# Altium footprint library hsbest.PcbLib: 389 footprints (part 21 of 25)
Each footprint in its own frame and in the unit in brackets; x right, y up, seen from the top. Pads: shape width x height; smd on the part's side, far side on the other; paste and mask are expansions set on the pad; w line width, h text height; cw(c..) or ccw(c..) is an arc to the next point about the centre after c.
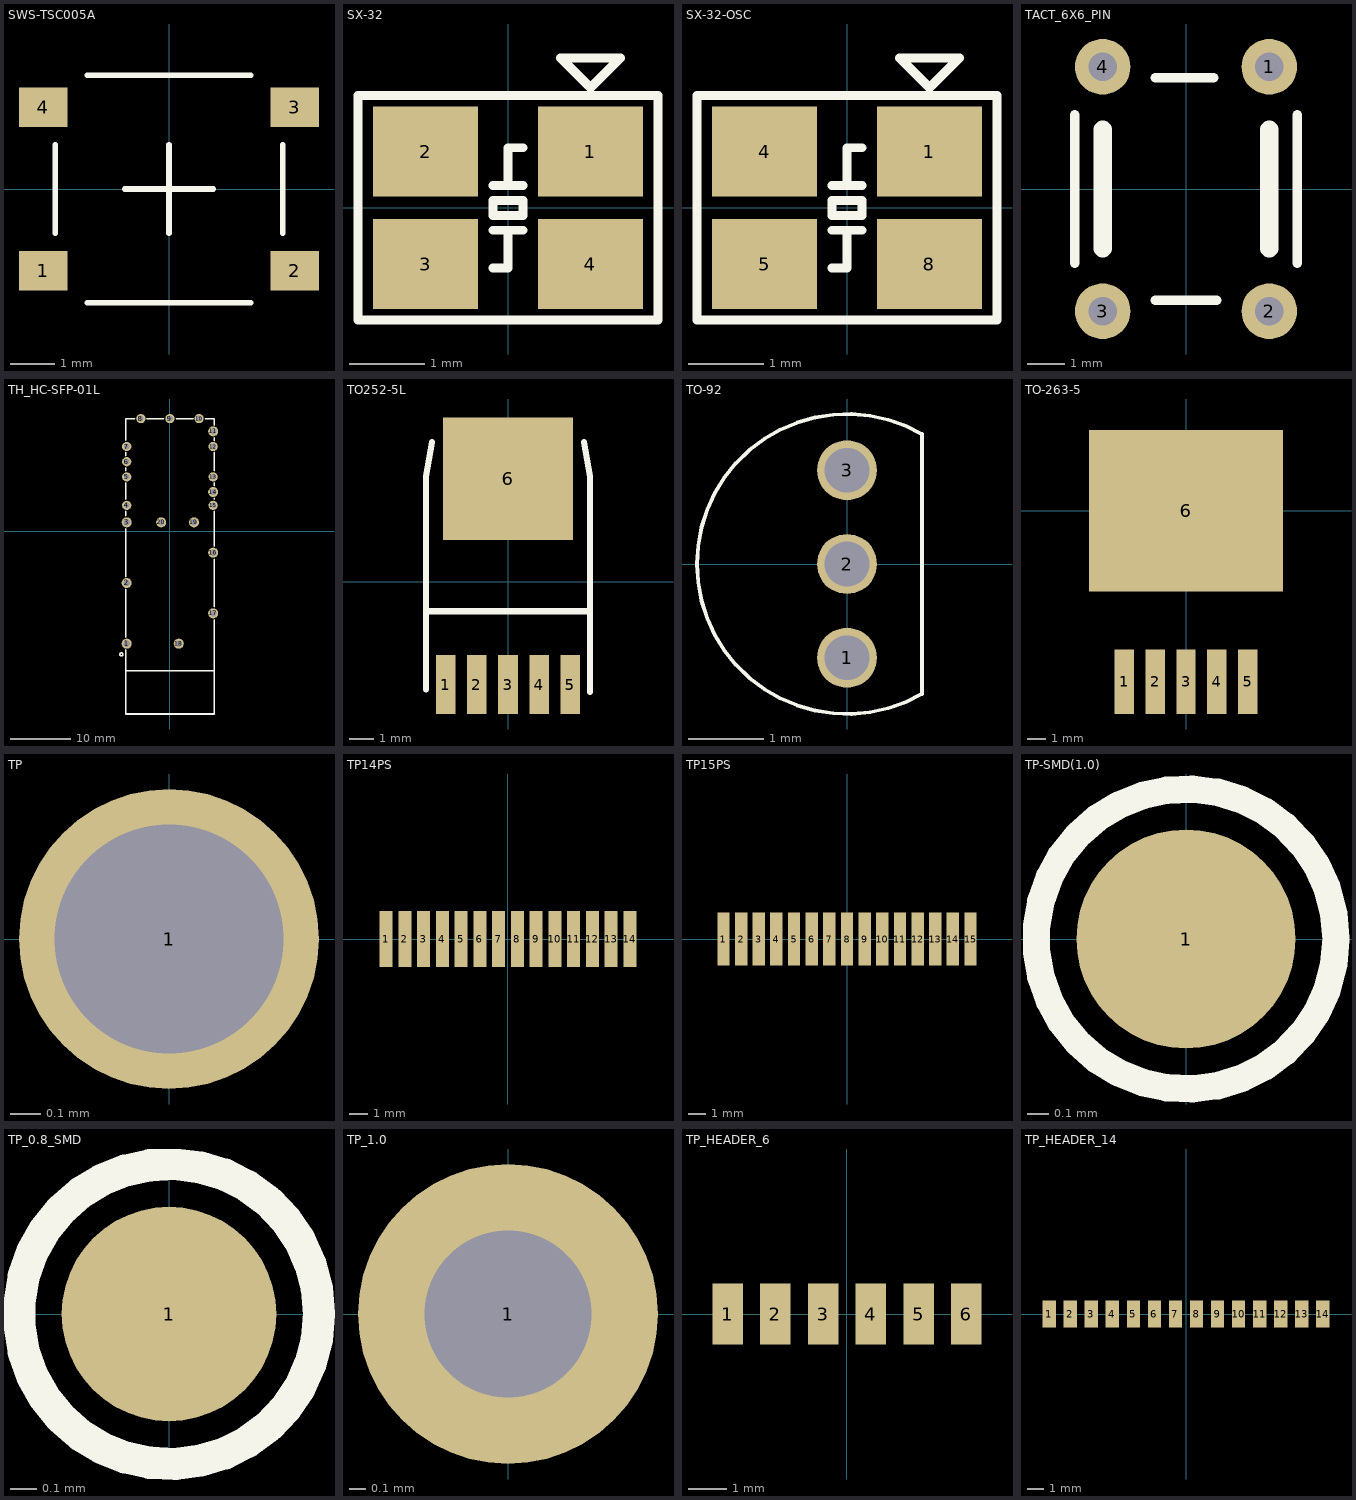
[diagram p20: the footprints below, top view; thin cyan lines are the x and y axes]

## SWS-TSC005A [mm]
pads (4):
  rect 1.1x0.9 smd: 1(-2.85,-1.85) 2(2.85,-1.85) 3(2.85,1.85) 4(-2.85,1.85)
Top Overlay:
  lines w0.125: -2.575,-1 -2.575,1 ; -1.85,-2.575 1.85,-2.575 ; -1.85,2.575 1.85,2.575 ; -1,0 1,0 ; 0,-1 0,1 ; 2.575,-1 2.575,1

## SX-32 [mm]
height 0.6
pads (4):
  rect 1.4x1.2 smd: 1(1.1,0.75) 2(-1.1,0.75) 3(-1.1,-0.75) 4(1.1,-0.75)
Top Overlay:
  lines w0.12: -0.2,-0.8 0,-0.8 0,-0.3 ; -0.2,-0.3 0.2,-0.3 ; -0.2,0.3 0.2,0.3 ; 0,0.3 0,0.8 0.2,0.8 ; -2,-1.5 -2,1.5 ; -2,-1.5 2,-1.5 ; -2,-1.5 -2,1.5 ; -2,-1.5 2,-1.5 ; -2,1.5 2,1.5 ; -2,1.5 2,1.5 ; 2,-1.5 2,1.5 ; 2,-1.5 2,1.5 ; -0.2,-0.1 0.2,-0.1 0.2,0.1 -0.2,0.1 -0.2,-0.1 ; 0.7,2 1.1,1.6 1.5,2 0.7,2

## SX-32-OSC [mm]
height 0.6
pads (4):
  rect 1.4x1.2 smd: 1(1.1,0.75) 4(-1.1,0.75) 5(-1.1,-0.75) 8(1.1,-0.75)
Top Overlay:
  lines w0.12: -0.2,-0.8 0,-0.8 0,-0.3 ; -0.2,-0.3 0.2,-0.3 ; -0.2,0.3 0.2,0.3 ; 0,0.3 0,0.8 0.2,0.8 ; -2,-1.5 -2,1.5 ; -2,-1.5 2,-1.5 ; -2,-1.5 -2,1.5 ; -2,-1.5 2,-1.5 ; -2,1.5 2,1.5 ; -2,1.5 2,1.5 ; 2,-1.5 2,1.5 ; 2,-1.5 2,1.5 ; -0.2,-0.1 0.2,-0.1 0.2,0.1 -0.2,0.1 -0.2,-0.1 ; 0.7,2 1.1,1.6 1.5,2 0.7,2

## TACT_6X6_PIN [mm]
height 1.25
pads (4):
  round 1.5 hole 0.762: 1(2.25,3.3) 2(2.25,-3.3) 3(-2.25,-3.3) 4(-2.25,3.3)
Top Overlay:
  lines w0.254: -3,-2 -3,2 ; -0.825,-3 0.825,-3 ; -0.825,3 0.75,3 ; 3,-2 3,2
  lines w0.508: -2.25,-1.6 -2.25,1.6 ; 2.25,-1.6 2.25,1.6

## TH_HC-SFP-01L [mm]
pads (20):
  round 1.65 hole 1.05 paste+0 mask+0.05: 1(-7.125,-18.55) 2(-7.125,-8.55) 3(-7.125,1.45) 11(7.125,16.45) 14(7.125,6.45) 16(7.125,-3.55) 17(7.125,-13.55) 18(1.455,-18.55) 19(3.955,1.45) 20(-1.445,1.45)
  round 1.524 hole 0.95 paste+0 mask+0.05: 4(-7.125,4.25) 5(-7.125,8.95) 7(-7.125,13.95) 8(-4.795,18.55) 9(0.005,18.55) 10(4.805,18.55) 12(7.125,13.95) 13(7.125,8.95) 15(7.125,4.25)
  round 1.524 hole 0.85 paste+0 mask+0.05: 6(-7.125,11.45)
Top Overlay:
  circle w0.254: c-8.001,-20.32 r0.254
  lines w0.254: -7.3,-19.6 -7.3,-30.15 7.3,-30.15 7.3,-14.65 ; -7.3,-17.5 -7.3,-9.6 ; -7.3,-7.5 -7.3,0.4 ; -7.3,2.5 -7.3,3.263 ; -7.3,5.237 -7.3,7.963 ; -7.3,9.937 -7.3,10.463 ; -7.3,12.437 -7.3,12.963 ; -7.3,14.95 -7.3,18.55 -5.811,18.55 ; -7.239,-23.05 7.239,-23.05 ; -3.779,18.55 -0.985,18.55 ; 1.047,18.55 3.841,18.55 ; 5.8,18.55 7.3,18.55 7.3,17.45 ; 7.3,-12.5 7.3,-4.6 ; 7.3,-2.5 7.3,3.263 ; 7.3,5.237 7.3,5.4 ; 7.3,7.5 7.3,7.963 ; 7.3,9.937 7.3,12.963 ; 7.3,14.937 7.3,15.4

## TO252-5L [mm]
pads (6):
  rect 0.8x2.4 smd: 1(-2.54,-4.2) 2(-1.27,-4.2) 3(0,-4.2) 4(1.27,-4.2) 5(2.54,-4.2)
  rect 5.3x5 smd: 6(0,4.2)
Top Overlay:
  lines w0.254: -3.35,-4.4 -3.35,-1.1 ; -3.1,5.7 -3.35,4.3 -3.35,-1.2 3.35,-1.2 ; 3.1,5.7 3.35,4.3 3.35,-1.2 ; 3.35,-4.5 3.35,-1.2

## TO-92 [mm] "温度传感器"
height 1.25
pads (3):
  round 0.8 hole 0.6: 1(0,-1.25) 2(0,0) 3(0,1.25)
Top Overlay:
  lines w0.05: 1,-1.732 cw(c0,0) 1,1.732
  lines w0.051: 1,-1.732 1,1.732

## TO-263-5 [mil]
pads (6):
  rect 42x140 smd: 1(-134.02,-370.08) 2(-67.01,-370.08) 3(0,-370.08) 4(67.01,-370.08) 5(134.02,-370.08)
  rect 420x350 smd: 6(0,0)

## TP [mm]
pads (1):
  round 1 hole 0.762: 1(0,0)

## TP14PS [mm]
pads (14):
  rect 0.7x3 smd: 1(-6.5,0) 2(-5.5,0) 3(-4.5,0) 4(-3.5,0) 5(-2.5,0) 6(-1.5,0) 7(-0.5,0) 8(0.5,0) 9(1.5,0) 10(2.5,0) 11(3.5,0) 12(4.5,0) 13(5.5,0) 14(6.5,0)

## TP15PS [mm]
pads (15):
  rect 0.7x3 smd: 1(-7,0) 2(-6,0) 3(-5,0) 4(-4,0) 5(-3,0) 6(-2,0) 7(-1,0) 8(0,0) 9(1,0) 10(2,0) 11(3,0) 12(4,0) 13(5,0) 14(6,0) 15(7,0)

## TP-SMD(1.0) [mm]
pads (1):
  round 1 smd: 1(0,0)
Top Overlay:
  circle w0.125: c0,0 r0.684

## TP_0.8_SMD [mm]
pads (1):
  round 0.8 smd: 1(0,0)
Top Overlay:
  circle w0.12: c0,0 r0.559

## TP_1.0 [mm]
pads (1):
  round 1.8 hole 1: 1(0,0)

## TP_HEADER_6 [mm]
pads (6):
  rect 0.8x1.6 smd: 1(-3.125,0) 2(-1.875,0) 3(-0.625,0) 4(0.625,0) 5(1.875,0) 6(3.125,0)

## TP_HEADER_14 [mm]
pads (14):
  rect 0.8x1.6 smd: 1(-8.125,0) 2(-6.875,0) 3(-5.625,0) 4(-4.375,0) 5(-3.125,0) 6(-1.875,0) 7(-0.625,0) 8(0.625,0) 9(1.875,0) 10(3.125,0) 11(4.375,0) 12(5.625,0) 13(6.875,0) 14(8.125,0)